# Altium footprint library RECOM_R-78K-0p5.PcbLib: 1 footprints
Each footprint in its own frame and in the unit in brackets; x right, y up, seen from the top. Pads: shape width x height; smd on the part's side, far side on the other; paste and mask are expansions set on the pad; w line width, h text height; cw(c..) or ccw(c..) is an arc to the next point about the centre after c.
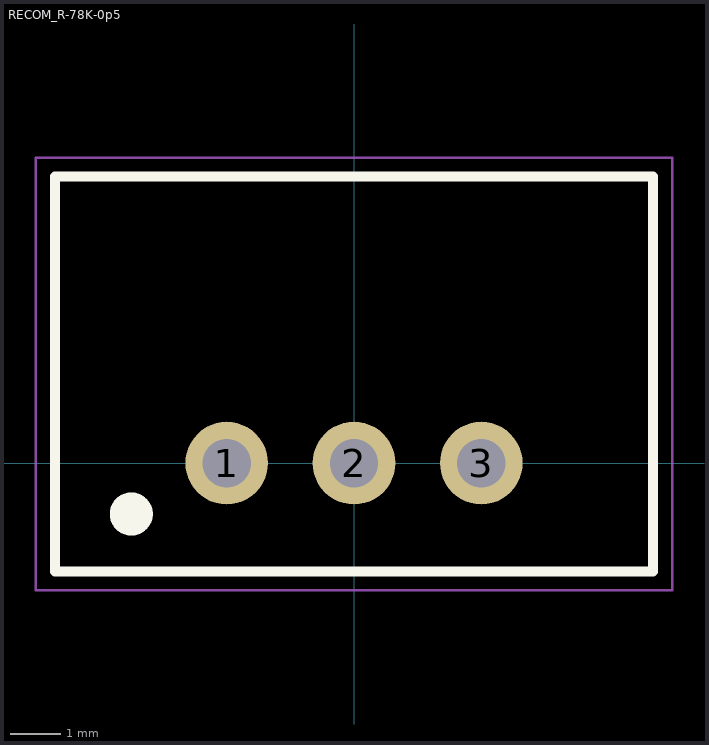
[diagram p0: the footprint, top view; thin cyan lines are the x and y axes]

## RECOM_R-78K-0p5 [mil]
pads (3):
  round 65 hole 38: 1(-100,0) 2(0,0) 3(100,0)
Top Overlay:
  circle w19.68: c-175,-40 r7.07
  lines w7.87: -235,-85 235,-85 235,225 -235,225 -235,-85
Mechanical 15:
  lines w1.97: -20,0 20,0 ; 0,-20 0,20 ; -250,-100 250,-100 250,240 -250,240 -250,-100
3D body "R-78K5.0-0.5.step": height 401.57, standoff -161.42, extent -226.38,-78.62 226.38,218.62